# Altium footprint library LPC54 (2).PcbLib: 15 footprints
Each footprint in its own frame and in the unit in brackets; x right, y up, seen from the top. Pads: shape width x height; smd on the part's side, far side on the other; paste and mask are expansions set on the pad; w line width, h text height; cw(c..) or ccw(c..) is an arc to the next point about the centre after c.
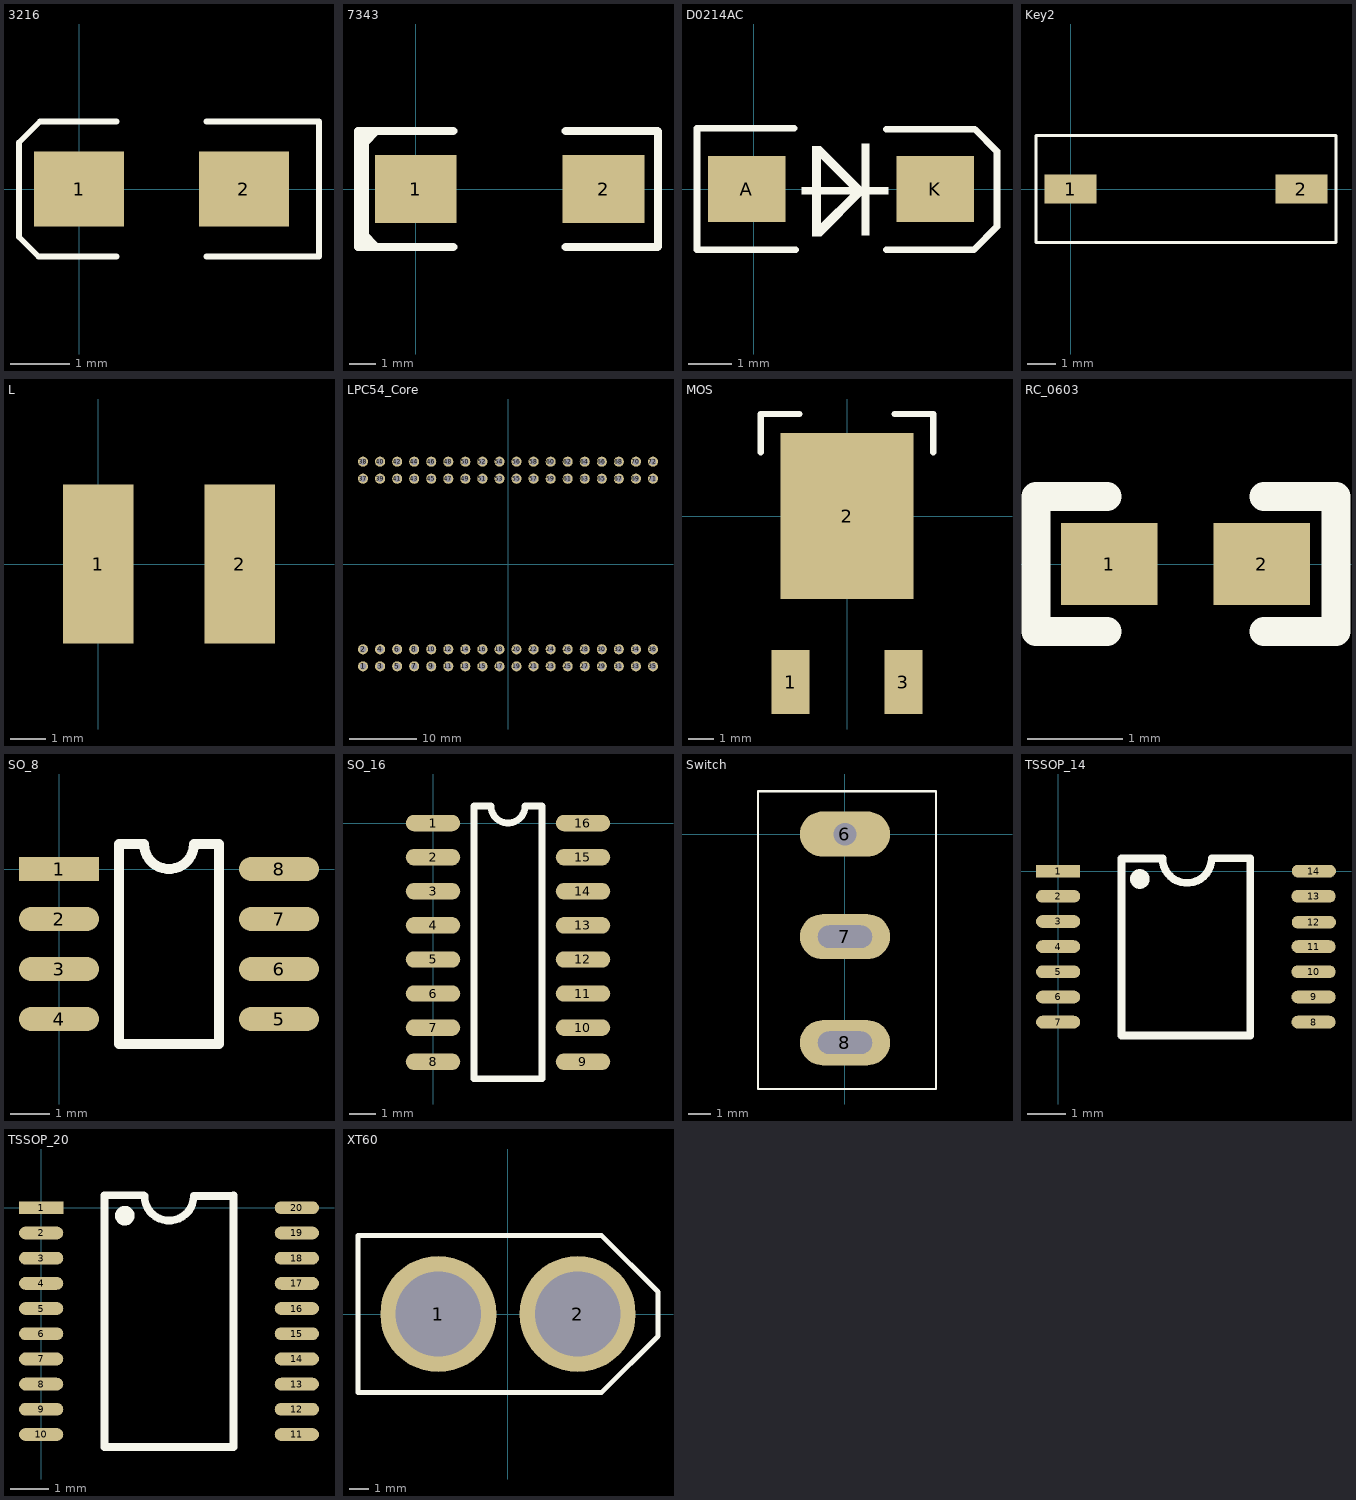
[diagram p0: the footprints below, top view; thin cyan lines are the x and y axes]

## 3216 [mil]
pads (2):
  rect 60x50 smd: 1(0,0) 2(110,0)
Top Overlay:
  lines w3.94: -27,-45 -40,-32 -40,31 -26,45 25,45 ; -26,-45 25,-45 ; 85,-45 160,-45 160,45 85,45

## 7343 [mil]
pads (2):
  rect 120x100 smd: 1(0,0) 2(275.59,0)
Top Overlay:
  lines w10: -75,-67 -59,-83 -59,-85 ; -75,68 -75,67 -57,85 -56,85
  lines w12: -75,-85 -75,85 ; 55,-85 -85,-85 -85,85 55,85 ; 220,-85 355,-85 355.59,-84.41 355.59,-70 355.59,70 355.59,84.41 355,85 220,85

## D0214AC [mil]
pads (2):
  rect 70x60 smd: A(-6.26,0) K(163.74,0)
Top Overlay:
  region: 121.74,-5 121.74,2 102.74,2 102.74,-5
  region: 94.31,-6.58 100.32,-0.58 60.74,39 54.73,32.99
  region: 110.24,-5 110.24,2 43.24,2 43.24,-5
  rectangle: 97.24,-42 104.74,41
  rectangle: 52.74,-43 60.74,39
  region: 100.35,-3.46 94.35,2.55 54.77,-37.03 60.78,-43.04
  lines w6: -51.26,-55 -51.26,55 -33.51,55 1.99,55 36.74,55 ; -50.26,-55 -32.51,-55 2.99,-55 37.74,-55 ; 119.74,-55 137.49,-55 172.99,-55 198.74,-55 219.74,-34 219.74,34 199.74,54 172.99,54 137.49,54 119.74,54

## Key2 [mm]
pads (2):
  rect 1.8x1 smd: 1(0,0) 2(8,0)
Top Overlay:
  lines w0.1: -1.2,-1.85 -1.2,1.85 9.2,1.85 9.2,-1.85 -1.2,-1.85

## L [mm]
pads (2):
  rect 2x4.5 smd: 1(0,0) 2(4,0)

## Logo [mil]

## LPC54_Core [mm] "逐飞科技LPC核心板整体封装，可直接使用"
pads (72):
  round 1.5 hole 0.9 slot 0.889 at 90 deg: 1(-21.59,-15.24) 2(-21.59,-12.7) 3(-19.05,-15.24) 4(-19.05,-12.7) 5(-16.51,-15.24) 6(-16.51,-12.7) 7(-13.97,-15.24) 8(-13.97,-12.7) 9(-11.43,-15.24) 10(-11.43,-12.7) 11(-8.89,-15.24) 12(-8.89,-12.7) 13(-6.35,-15.24) 14(-6.35,-12.7) 15(-3.81,-15.24) 16(-3.81,-12.7) 17(-1.27,-15.24) 18(-1.27,-12.7) 19(1.27,-15.24) 20(1.27,-12.7) 21(3.81,-15.24) 22(3.81,-12.7) 23(6.35,-15.24) 24(6.35,-12.7) 25(8.89,-15.24) 26(8.89,-12.7) 27(11.43,-15.24) 28(11.43,-12.7) 29(13.97,-15.24) 30(13.97,-12.7) 31(16.51,-15.24) 32(16.51,-12.7) 33(19.05,-15.24) 34(19.05,-12.7) 35(21.59,-15.24) 36(21.59,-12.7) 37(-21.59,12.7) 38(-21.59,15.24) 39(-19.05,12.7) 40(-19.05,15.24) 41(-16.51,12.7) 42(-16.51,15.24) 43(-13.97,12.7) 44(-13.97,15.24) 45(-11.43,12.7) 46(-11.43,15.24) 47(-8.89,12.7) 48(-8.89,15.24) 49(-6.35,12.7) 50(-6.35,15.24) 51(-3.81,12.7) 52(-3.81,15.24) 53(-1.27,12.7) 54(-1.27,15.24) 55(1.27,12.7) 56(1.27,15.24) 57(3.81,12.7) 58(3.81,15.24) 59(6.35,12.7) 60(6.35,15.24) 61(8.89,12.7) 62(8.89,15.24) 63(11.43,12.7) 64(11.43,15.24) 65(13.97,12.7) 66(13.97,15.24) 67(16.51,12.7) 68(16.51,15.24) 69(19.05,12.7) 70(19.05,15.24) 71(21.59,12.7) 72(21.59,15.24)

## MOS [mil]
pads (3):
  rect 59.06x100 smd: 1(-88.5,-260) 3(88.5,-260)
  rect 208.66x260 smd: 2(0,0)
Top Overlay:
  lines w10: -135,100 -135,160 -75,160 ; 75,160 135,160 135,100

## RC_0603 [mil]
pads (2):
  rect 40x34 smd: 1(39.37,0) 2(102.37,0)
Top Overlay:
  lines w12: 38.37,-28 9.05,-28 9.05,28 38.37,28 ; 103.37,-28 133.07,-28 133.07,28 103.37,28
3D body "R0603.STEP": height 17.72, standoff 0, extent 39.37,-16 102.36,15.5

## SO_8 [mil]
pads (8):
  rect 80x24 smd: 1(0,0)
  oval 80x24 smd: 2(0,-50) 3(0,-100) 4(0,-150) 5(220,-150) 6(220,-100) 7(220,-50) 8(220,0)
Top Overlay:
  lines w10: 60,-175 60,25 85,25 ccw(c110,25) 135,25 160,25 160,-175 60,-175

## SO_16 [mil]
pads (16):
  oval 80x24 smd: 1(0,0) 2(0,-50) 3(0,-100) 4(0,-150) 5(0,-200) 6(0,-250) 7(0,-300) 8(0,-350) 9(220,-350) 10(220,-300) 11(220,-250) 12(220,-200) 13(220,-150) 14(220,-100) 15(220,-50) 16(220,0)
Top Overlay:
  lines w10: 60,-375 160,-375 160,25 135,25 cw(c110,25) 85,25 60,25 60,-375

## Switch [mm]
pads (3):
  oval 4x2 hole 1 square: 6(0,0)
  oval 4x2 hole 1 slot 2.4 at 0 deg: 7(0,-4.548) 8(0,-9.248)
Top Overlay:
  lines w0.1: -3.861,-11.3 -3.861,1.9 4.039,1.9 4.039,-11.3 -3.861,-11.3

## TSSOP_14 [mm]
pads (14):
  rect 1.143x0.33 smd: 1(0,0)
  oval 1.143x0.33 smd: 2(0,-0.65) 3(0,-1.3) 4(0,-1.95) 5(0,-2.6) 6(0,-3.25) 7(0,-3.9) 8(6.6,-3.9) 9(6.6,-3.25) 10(6.6,-2.6) 11(6.6,-1.95) 12(6.608,-1.321) 13(6.6,-0.65) 14(6.608,0)
Top Overlay:
  circle w0.254: c2.112,-0.203 r0.127
  lines w0.2: 2.687,0.325 1.635,0.325 1.635,-4.249 4.965,-4.249 4.965,0.325 ; 2.696,0.33 ccw(c3.331,0.33) 3.966,0.33 4.96,0.33
3D body "TSSOP14.STEP": height 1.03, standoff -0.02, extent 0.028,-4.43 6.432,0.57

## TSSOP_20 [mm]
pads (20):
  rect 1.143x0.33 smd: 1(0,0)
  oval 1.143x0.33 smd: 2(0,-0.65) 3(0,-1.3) 4(0,-1.95) 5(0,-2.6) 6(0,-3.25) 7(0,-3.9) 8(0,-4.55) 9(0,-5.2) 10(0,-5.85) 11(6.6,-5.85) 12(6.6,-5.2) 13(6.6,-4.55) 14(6.6,-3.9) 15(6.6,-3.25) 16(6.6,-2.6) 17(6.6,-1.95) 18(6.6,-1.3) 19(6.6,-0.65) 20(6.6,0)
Top Overlay:
  circle w0.254: c2.159,-0.203 r0.127
  lines w0.2: 2.647,0.325 1.635,0.325 1.635,-6.175 4.965,-6.175 4.965,0.325 ; 2.667,0.305 ccw(c3.302,0.305) 3.937,0.305 4.945,0.305
3D body "TSSOP20.STEP": height 1.03, standoff -0.02, extent 0.1,-6.12 6.504,0.38

## XT60 [mm]
pads (2):
  round 6 hole 4.4: 1(-3.6,0) 2(3.6,0)
Top Overlay:
  lines w0.254: -7.75,-4.05 0,-4.05 4.84,-4.05 7.75,-1.14 7.75,0 7.75,1.14 4.84,4.05 0,4.05 -7.75,4.05 -7.75,0 -7.75,-4.05
3D body "30623934653264316533333239353637_b4fe96c91dff4343f048ce60e496aa67_8.sldprt": height 16, standoff -4.5, extent -7.75,-4.05 7.75,4.05